# Altium footprint library V23079B1201B301_Lib.PcbLib: 1 footprints
Each footprint in its own frame and in the unit in brackets; x right, y up, seen from the top. Pads: shape width x height; smd on the part's side, far side on the other; paste and mask are expansions set on the pad; w line width, h text height; cw(c..) or ccw(c..) is an arc to the next point about the centre after c.
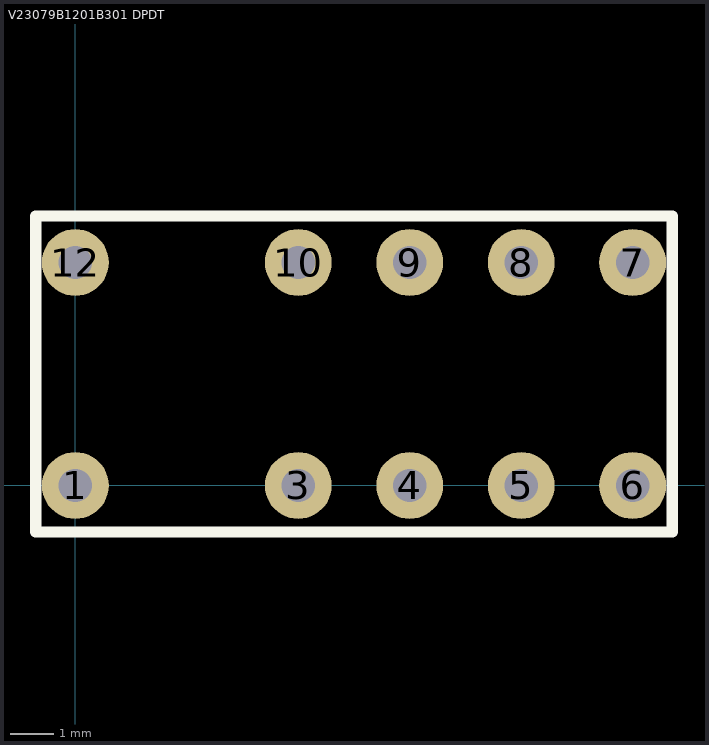
[diagram p0: the footprint, top view; thin cyan lines are the x and y axes]

## V23079B1201B301 DPDT [mil] "V23079B1201B301 DPDT"
pads (10):
  round 60 hole 30: 1(0,0) 3(200,0) 4(300,0) 5(400,0) 6(500,0) 7(500,200) 8(400,200) 9(300,200) 10(200,200) 12(0,200)
Top Overlay:
  lines w10: -35.43,-41.73 -35.43,241.73 535.43,241.73 535.43,-41.73 -35.43,-41.73